# Altium schematic symbol library IRF9640PBF.SchLib: 2 symbols
Pins are listed as number, name and electrical type; pins without a type are passive.

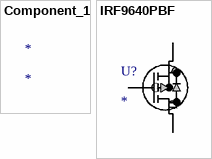
[diagram p0: symbols Component_1 to IRF9640PBF]

## Component_1
designator *

## IRF9640PBF
designator U?
No Description Available; Mfr_Name: Vishay
footprint TO220AB_VIS
pins: 1 G, 2 D, 3 S